# EAGLE library part MICROSD-SOCKET (library Header and Connector)
MicroSD card socket
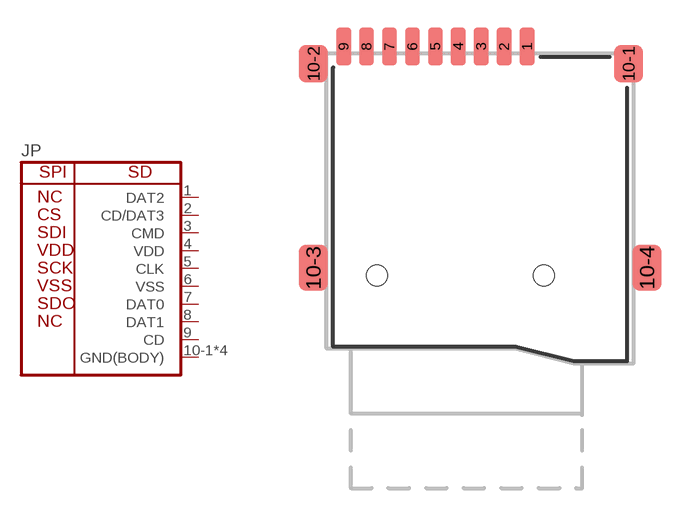
[diagram p17: symbol with the pads of MICROSD-SOCKET; footprint MICROSD-SOCKET]

Designator prefix JP

## MICROSD-SOCKET (CYTRON-PC: S-CN-SD-MICRO; DESC: Micro SD Card Socket)  [MICROSD-SOCKET]
1  DAT2  pas
2  CD/DAT3  pas
3  CMD  pas
4  VDD  pas
5  CLK  pas
6  VSS  pas
7  DAT0  pas
8  DAT1  pas
9  CD  pas
10-1  GND(BODY)  pas
10-2  GND(BODY)  pas
10-3  GND(BODY)  pas
10-4  GND(BODY)  pas

## Footprint MICROSD-SOCKET (pad centres in mm)
smd 0.7 x 1.8: 1 2.25,11; 2 1.15,11; 3 0.05,11; 4 -1.05,11; 5 -2.15,11; 6 -3.25,11; 7 -4.35,11; 8 -5.45,11; 9 -6.55,11
smd 1.4 x 1.8: 10-1 7.112,10.16; 10-2 -8.001,10.16
smd 1.4 x 2.2: 10-3 -8.001,0.381; 10-4 8.001,0.381
hole 1 at -4.95,0
hole 1 at 3.05,0